# Altium schematic symbol library Atmega 128.SchLib: 1 symbol
Pins are listed as number, name and electrical type; pins without a type are passive.

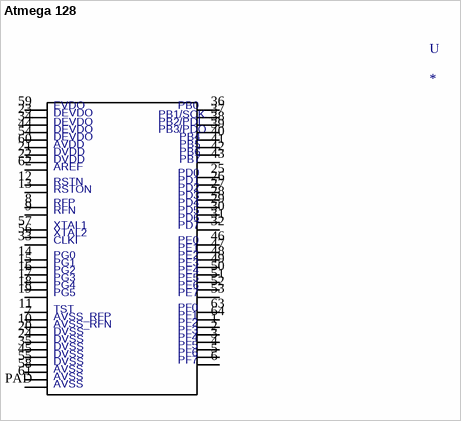
[diagram p0: symbol Atmega 128]

## Atmega 128
designator U
footprint Atmega 128 (QFN, 64-Leads, Body 9.00x9.00mm, Pitch 0.50mm, Thermal Pad 4.75x5.65mm, IPC Medium Density)
pins: 1, 2, 3, 4, 5, 6, 7, 8, 9, 10, 11, 12, 13, 14, 15, 16, 17, 18, 19, 20, 21, 22, 23, 24, 25, 26, 27, 28, 29, 30, 31, 32, 33, 34, 35, 36, 37, 38, 39, 40, 41, 42, 43, 44, 45, 46, 47, 48, 49, 50, 51, 52, 53, 54, 55, 56, 57, 58, 59, 60, 61, 62, 63, 64, PAD
text: EVDO; PB0; DEVDO; PB1/SCK; PB2/PDI; PB3/PDO; PB4; AVDD; PB5; DVDD; PB6; PB7; AREF; PD0; PD1; RSTN; PD2; RSTON; PD3; RFP; PD4; RFN; PD5; PD6; XTAL1; PD7; XTAL2; CLKI; PE0; PE1; PG0; PE2; PG1; PE3; PG2; PE4; PG3; PE5; PG4; PE6; PG5; PE7; PF0; TST; PF1; AVSS_RFP; PF2; AVSS_RFN; PF3; DVSS; PF4; PF5; PF6; PF7; AVSS